# Altium schematic symbol library Jamper.SchLib: 1 symbol
Pins are listed as number, name and electrical type; pins without a type are passive.

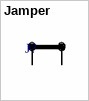
[diagram p0: symbol Jamper]

## Jamper
designator J?
Name: Перемычка
footprint J-2x2-2.5
pins: 1, 2